# EAGLE library part MAX1136EUA-T (library X16-Pi-Shield)
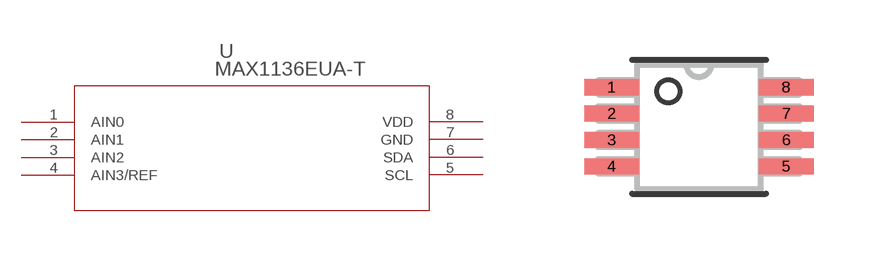
[diagram p7: symbol with the pads of 21-0036K; footprint 21-0036K]

Designator prefix U

## MAX1136EUA-T (DESCRIPTION: 2.7V to 3.6V and 4.5V to 5.5V, Low-Power, 4-/12-Channel, 2-Wire Serial 10-Bit AD; DIGI-KEY_PART_NUMBER: MAX1136EUA+-ND; DIGI-KEY_PURCHASE_URL: https://www.digikey.com/product-detail/en/maxim-integrated/MAX1136EUA-/MAX1136EUA--ND/1159953?utm_source=snapeda&utm_medium=aggregator&utm_campaign=symbol; MF: Maxim Integrated; MP: MAX1136EUA+; PACKAGE: MSOP-8 Maxim Integrated)  [21-0036K]
1  AIN0
2  AIN1
3  AIN2
4  AIN3/REF
5  SCL
6  SDA
7  GND  pwr
8  VDD  pwr

## Footprint 21-0036K (pad centres in mm)
smd 1.372 x 0.406: 1 -2.184,0.991; 2 -2.184,0.33; 3 -2.184,-0.33; 4 -2.184,-0.991; 5 2.184,-0.991; 6 2.184,-0.33; 7 2.184,0.33; 8 2.184,0.991